# Altium schematic symbol library MC33FS8530A1ES.SchLib: 1 symbol
Pins are listed as number, name and electrical type; pins without a type are passive.

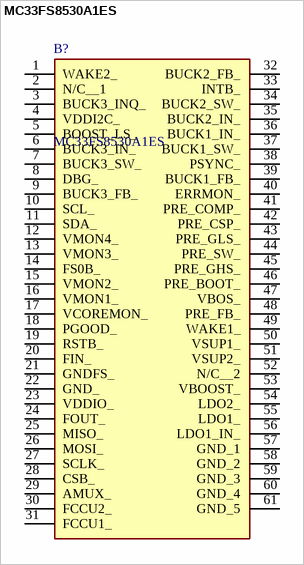
[diagram p0: symbol MC33FS8530A1ES]

## MC33FS8530A1ES
designator B?
Power Management Specialized - PMIC Safety power management IC, QFN56; Manufacturer_Name: NXP; Geometry.Height: 1mm; Manufacturer_Part_Number: MC33FS8530A1ES; Mouser Part Number: 771-MC33FS8530A1ES; Mouser Price/Stock: https://www.mouser.co.uk/ProductDetail/NXP-Semiconductors/MC33FS8530A1ES?qs=9r4v7xj2Lnk7RA512yskfA%3D%3D; Arrow Part Number: *; Arrow Price/Stock: *; Datasheet Link: https://www.mouser.cn/datasheet/2/302/PB_FS84_FS85C-1947521.pdf
footprint MC33FS8530A1ES
pins: 1 WAKE2_, 2 N/C__1, 3 BUCK3_INQ_, 4 VDDI2C_, 5 BOOST_LS_, 6 BUCK3_IN_, 7 BUCK3_SW_, 8 DBG_, 9 BUCK3_FB_, 10 SCL_, 11 SDA_, 12 VMON4_, 13 VMON3_, 14 FS0B_, 15 VMON2_, 16 VMON1_, 17 VCOREMON_, 18 PGOOD_, 19 RSTB_, 20 FIN_, 21 GNDFS_, 22 GND_, 23 VDDIO_, 24 FOUT_, 25 MISO_, 26 MOSI_, 27 SCLK_, 28 CSB_, 29 AMUX_, 30 FCCU2_, 31 FCCU1_, 32 BUCK2_FB_, 33 INTB_, 34 BUCK2_SW_, 35 BUCK2_IN_, 36 BUCK1_IN_, 37 BUCK1_SW_, 38 PSYNC_, 39 BUCK1_FB_, 40 ERRMON_, 41 PRE_COMP_, 42 PRE_CSP_, 43 PRE_GLS_, 44 PRE_SW_, 45 PRE_GHS_, 46 PRE_BOOT_, 47 VBOS_, 48 PRE_FB_, 49 WAKE1_, 50 VSUP1_, 51 VSUP2_, 52 N/C__2, 53 VBOOST_, 54 LDO2_, 55 LDO1_, 56 LDO1_IN_, 57 GND_1, 58 GND_2, 59 GND_3, 60 GND_4, 61 GND_5